# Altium schematic symbol library LED_AMBER.Schlib: 1 symbol
Pins are listed as number, name and electrical type; pins without a type are passive.

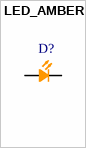
[diagram p0: symbol LED_AMBER]

## LED_AMBER
designator D?
pins: A, C